# Altium schematic symbol library Pin_connector.SchLib: 24 symbols
Pins are listed as number, name and electrical type; pins without a type are passive.

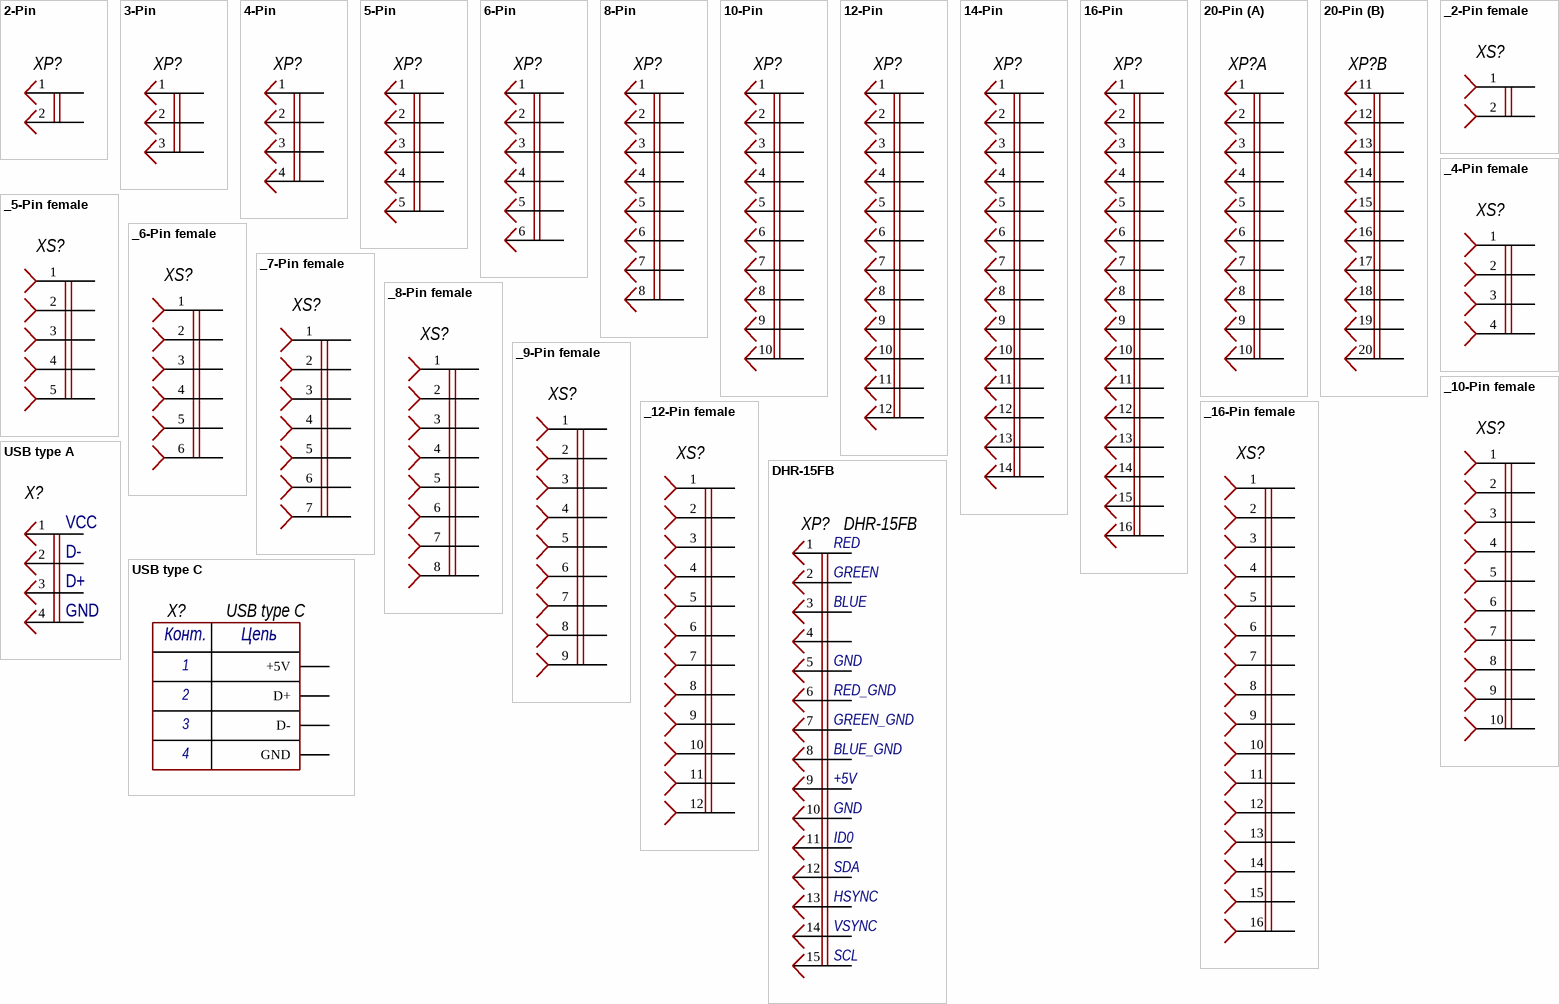
[diagram p0: symbols 2-Pin to USB type C]

## 2-Pin
designator XP?  (value not drawn)
Model: *; Manufcacture: *; HelpURL: *; Case: *; Value: *
footprint CON: PLS-2
footprint CON: 300-02P-5.08 (2 pin 5.08mm screw connector)
pins: 1, 2

## 3-Pin
designator XP?  (value not drawn)
Model: *; Manufcacture: *; HelpURL: *; Case: *; Value: *
footprint CON: PLS-3
pins: 1, 2, 3

## 4-Pin
designator XP?  (value not drawn)
Model: *; Manufcacture: *; HelpURL: *; Case: *; Value: *
footprint CON: PLS-4 (PLS-40 4 pin header)
footprint CON: PLD-4
footprint CON: CWF-4R
pins: 1, 2, 3, 4

## 5-Pin
designator XP?  (value not drawn)
Model: *; Manufcacture: *; HelpURL: *; Case: *; Value: *
footprint CON: PLS-5
footprint MOLEX_105017-0001
footprint CON: PLS-5R
pins: 1, 2, 3, 4, 5

## 6-Pin
designator XP?  (value not drawn)
Model: *; Manufcacture: *; HelpURL: *; Case: *; Value: *
footprint CON: PLS-6
pins: 1, 2, 3, 4, 5, 6

## 8-Pin
designator XP?  (value not drawn)
Model: *; Manufcacture: *; HelpURL: *; Case: *; Value: *
footprint CON: IDC-8MS (IDC-16MS straight leads pcb mount)
footprint CON: IDC-8R (IDC-8MS 8 pin PCB-mount header)
pins: 1, 2, 3, 4, 5, 6, 7, 8

## 10-Pin
designator XP?  (value not drawn)
Model: *; Manufcacture: *; HelpURL: *; Case: *; Value: *
footprint CON: IDC-10MS (IDC-10MS 10 pin PCB-mount header)
footprint CON: IDC-10R (IDC-10MS 10 pin PCB-mount header)
pins: 1, 2, 3, 4, 5, 6, 7, 8, 9, 10

## 12-Pin
designator XP?  (value not drawn)
Model: *; Manufcacture: *; HelpURL: *; Case: *; Value: *
footprint CON: PLD-12
footprint CON: IDC-12R (IDC-12MS 12 pin PCB-mount header)
pins: 1, 2, 3, 4, 5, 6, 7, 8, 9, 10, 11, 12

## 14-Pin
designator XP?  (value not drawn)
Model: *; Manufcacture: *; HelpURL: *; Case: *; Value: *
footprint CON: IDC-14R (IDC-12MS 14 pin PCB-mount header)
pins: 1, 2, 3, 4, 5, 6, 7, 8, 9, 10, 11, 12, 13, 14

## 16-Pin
designator XP?  (value not drawn)
Model: *; Manufcacture: *; HelpURL: *; Case: *; Value: *
footprint CON: PLD-16
footprint CON: PLD-16 (inverted)
footprint CON: PLD-16 (inverted/long)
footprint CON: IDC-16MS (IDC-16MS straight leads pcb mount)
footprint CON: IDC-16R (IDC-16MS 16 pin PCB-mount header)
pins: 1, 2, 3, 4, 5, 6, 7, 8, 9, 10, 11, 12, 13, 14, 15, 16

## 20-Pin
designator XP?  (value not drawn)
Model: *; Manufcacture: *; HelpURL: *; Case: *; Value: *
footprint CON: IDC-20MS
footprint CON: IDC-20R (IDC-20MS 20 pin PCB-mount header)
part A pins: 1, 2, 3, 4, 5, 6, 7, 8, 9, 10
part B pins: 11, 12, 13, 14, 15, 16, 17, 18, 19, 20

## _2-Pin female
designator XS?  (value not drawn)
Value: *
footprint CON: 300-02P-5.08 (2 pin 5.08mm screw connector)
pins: 1, 2

## _4-Pin female
designator XS?  (value not drawn)
Value: *
footprint 15EDGVC-5.08-04P
pins: 1, 2, 3, 4

## _5-Pin female
designator XS?  (value not drawn)
Value: *
footprint 15EDGVC-5.08-05P
pins: 1, 2, 3, 4, 5

## _6-Pin female
designator XS?  (value not drawn)
Value: *
footprint CON: PBS-6 (PBS-6)
footprint 15EDGVC-5.08-06P
pins: 1, 2, 3, 4, 5, 6

## _7-Pin female
designator XS?  (value not drawn)
Value: *
footprint 15EDGVC-5.08-07P
pins: 1, 2, 3, 4, 5, 6, 7

## _8-Pin female
designator XS?  (value not drawn)
Value: *
footprint CON: PBD-8 (PBD-8)
footprint CON: PBS-8 (PBS-8)
footprint 15EDGVC-5.08-08P
pins: 1, 2, 3, 4, 5, 6, 7, 8

## _9-Pin female
designator XS?  (value not drawn)
Value: *
pins: 1, 2, 3, 4, 5, 6, 7, 8, 9

## _10-Pin female
designator XS?  (value not drawn)
Value: *
footprint CON: PBD-10
pins: 1, 2, 3, 4, 5, 6, 7, 8, 9, 10

## _12-Pin female
designator XS?  (value not drawn)
Value: *
footprint CON: PBD-12 (PBD-12)
pins: 1, 2, 3, 4, 5, 6, 7, 8, 9, 10, 11, 12

## _16-Pin female
designator XS?  (value not drawn)
Value: *
footprint CON: PBD-16 (PBD-16)
pins: 1, 2, 3, 4, 5, 6, 7, 8, 9, 10, 11, 12, 13, 14, 15, 16

## DHR-15FB
designator XP?
Model: *; Manufcacture: *; HelpURL: *; Case: *; Value: *
footprint DHR-15FB (DS1038-15F)
pins: 1, 2, 3, 4, 5, 6, 7, 8, 9, 10, 11, 12, 13, 14, 15
text: RED; GREEN; BLUE; GND; RED_GND; GREEN_GND; BLUE_GND; +5V; ID0; SDA; HSYNC; VSYNC; SCL

## USB type A
designator X?  (value not drawn)
footprint USB type A
pins: 1 VCC, 2 D-, 3 D+, 4 GND

## USB type C
designator X?
footprint USB type C
pins: 1 +5V, 2 D+, 3 D-, 4 GND
text: Конт.; Цепь